# Altium integrated library Resistor - Current Sense.IntLib: 810 symbols (part 5 of 12)
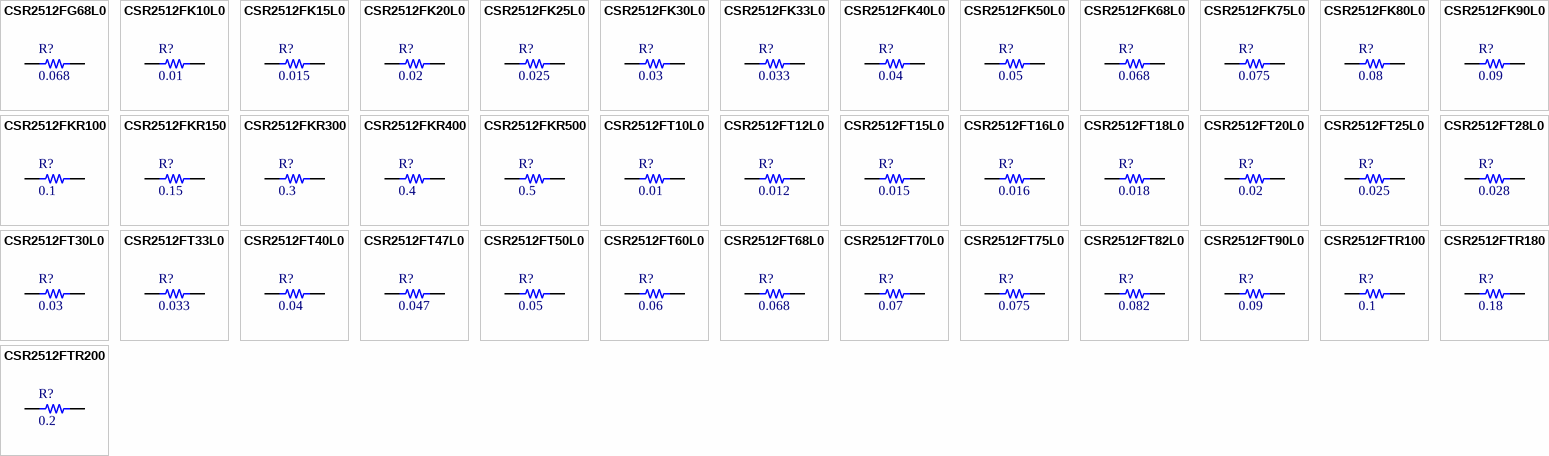
[diagram p24: symbols CSR2512FG68L0 to CSR2512FTR200]

## CSR2512FK33L0
designator R?, comment 0.033
RES SMD 0.033 OHM 1% 2W 2512; Part Number: CSR2512FK33L0; Manufacturer: Stackpole Electronics Inc.; TemperatureRange: -55C ~ 155C; TemperatureCoefficient: 200ppm/C; Value: 0.033; PartId: 10081; Supplier 1: Digi-Key; Supplier Part Number 1: CSR2512FK33L0-ND; ComponentLink1Description: Datasheet; ComponentLink1URL: http://www.seielect.com/catalog/SEI-CSR_CSRN.pdf; ComponentLink2Description: Digi-Key Listing; ComponentLink2URL: https://www.digikey.com/product-detail/en/stackpole-electronics-inc/CSR2512FK33L0/CSR2512FK33L0-ND/1742521; Tolerance: 1%; PowerRating: 2W; Price: 0.1787; Device Package: 2512 (6432 Metric)
footprint STACKPOLE CSR2512
pins: 1, 2

## CSR2512FK40L0
designator R?, comment 0.04
RES SMD 0.04 OHM 1% 2W 2512; Part Number: CSR2512FK40L0; Manufacturer: Stackpole Electronics Inc.; TemperatureRange: -55C ~ 155C; TemperatureCoefficient: 200ppm/C; Value: 0.04; PartId: 10082; Supplier 1: Digi-Key; Supplier Part Number 1: CSR2512FK40L0-ND; ComponentLink1Description: Datasheet; ComponentLink1URL: http://www.seielect.com/catalog/SEI-CSR_CSRN.pdf; ComponentLink2Description: Digi-Key Listing; ComponentLink2URL: https://www.digikey.com/product-detail/en/stackpole-electronics-inc/CSR2512FK40L0/CSR2512FK40L0-ND/1742526; Tolerance: 1%; PowerRating: 2W; Price: 0.1787; Device Package: 2512 (6432 Metric)
footprint STACKPOLE CSR2512
pins: 1, 2

## CSR2512FK50L0
designator R?, comment 0.05
RES SMD 0.05 OHM 1% 2W 2512; Part Number: CSR2512FK50L0; Manufacturer: Stackpole Electronics Inc.; TemperatureRange: -55C ~ 155C; TemperatureCoefficient: 200ppm/C; Value: 0.05; PartId: 10083; Supplier 1: Digi-Key; Supplier Part Number 1: CSR2512FK50L0-ND; ComponentLink1Description: Datasheet; ComponentLink1URL: http://www.seielect.com/catalog/SEI-CSR_CSRN.pdf; ComponentLink2Description: Digi-Key Listing; ComponentLink2URL: https://www.digikey.com/product-detail/en/stackpole-electronics-inc/CSR2512FK50L0/CSR2512FK50L0-ND/1742529; Tolerance: 1%; PowerRating: 2W; Price: 0.1787; Device Package: 2512 (6432 Metric)
footprint STACKPOLE CSR2512
pins: 1, 2

## CSR2512FK68L0
designator R?, comment 0.068
RES SMD 0.068 OHM 1% 2W 2512; Part Number: CSR2512FK68L0; Manufacturer: Stackpole Electronics Inc.; TemperatureRange: -55C ~ 155C; TemperatureCoefficient: 200ppm/C; Value: 0.068; PartId: 10066; Supplier 1: Digi-Key; Supplier Part Number 1: CSR2512FK68L0-ND; ComponentLink1Description: Datasheet; ComponentLink1URL: http://www.seielect.com/catalog/SEI-CSR_CSRN.pdf; ComponentLink2Description: Digi-Key Listing; ComponentLink2URL: https://www.digikey.com/product-detail/en/stackpole-electronics-inc/CSR2512FK68L0/CSR2512FK68L0-ND/1742532; Tolerance: 1%; PowerRating: 2W; Price: 0.1665; Device Package: 2512 (6432 Metric)
footprint STACKPOLE CSR2512
pins: 1, 2

## CSR2512FK75L0
designator R?, comment 0.075
RES SMD 0.075 OHM 1% 2W 2512; Part Number: CSR2512FK75L0; Manufacturer: Stackpole Electronics Inc.; TemperatureRange: -55C ~ 155C; TemperatureCoefficient: 200ppm/C; Value: 0.075; PartId: 10067; Supplier 1: Digi-Key; Supplier Part Number 1: CSR2512FK75L0-ND; ComponentLink1Description: Datasheet; ComponentLink1URL: http://www.seielect.com/catalog/SEI-CSR_CSRN.pdf; ComponentLink2Description: Digi-Key Listing; ComponentLink2URL: https://www.digikey.com/product-detail/en/stackpole-electronics-inc/CSR2512FK75L0/CSR2512FK75L0-ND/1742536; Tolerance: 1%; PowerRating: 2W; Price: 0.1665; Device Package: 2512 (6432 Metric)
footprint STACKPOLE CSR2512
pins: 1, 2

## CSR2512FK80L0
designator R?, comment 0.08
RES SMD 0.08 OHM 1% 2W 2512; Part Number: CSR2512FK80L0; Manufacturer: Stackpole Electronics Inc.; TemperatureRange: -55C ~ 155C; TemperatureCoefficient: 200ppm/C; Value: 0.08; PartId: 10068; Supplier 1: Digi-Key; Supplier Part Number 1: CSR2512FK80L0-ND; ComponentLink1Description: Datasheet; ComponentLink1URL: http://www.seielect.com/catalog/SEI-CSR_CSRN.pdf; ComponentLink2Description: Digi-Key Listing; ComponentLink2URL: https://www.digikey.com/product-detail/en/stackpole-electronics-inc/CSR2512FK80L0/CSR2512FK80L0-ND/1742538; Tolerance: 1%; PowerRating: 2W; Price: 0.1665; Device Package: 2512 (6432 Metric)
footprint STACKPOLE CSR2512
pins: 1, 2

## CSR2512FK90L0
designator R?, comment 0.09
RES SMD 0.09 OHM 1% 2W 2512; Part Number: CSR2512FK90L0; Manufacturer: Stackpole Electronics Inc.; TemperatureRange: -55C ~ 155C; TemperatureCoefficient: 200ppm/C; Value: 0.09; PartId: 10069; Supplier 1: Digi-Key; Supplier Part Number 1: CSR2512FK90L0-ND; ComponentLink1Description: Datasheet; ComponentLink1URL: http://www.seielect.com/catalog/SEI-CSR_CSRN.pdf; ComponentLink2Description: Digi-Key Listing; ComponentLink2URL: https://www.digikey.com/product-detail/en/stackpole-electronics-inc/CSR2512FK90L0/CSR2512FK90L0-ND/1742540; Tolerance: 1%; PowerRating: 2W; Price: 0.1665; Device Package: 2512 (6432 Metric)
footprint STACKPOLE CSR2512
pins: 1, 2

## CSR2512FKR100
designator R?, comment 0.1
RES SMD 0.1 OHM 1% 2W 2512; Part Number: CSR2512FKR100; Manufacturer: Stackpole Electronics Inc.; TemperatureRange: -55C ~ 155C; TemperatureCoefficient: 200ppm/C; Value: 0.1; PartId: 10070; Supplier 1: Digi-Key; Supplier Part Number 1: CSR2512FKR100-ND; ComponentLink1Description: Datasheet; ComponentLink1URL: http://www.seielect.com/catalog/SEI-CSR_CSRN.pdf; ComponentLink2Description: Digi-Key Listing; ComponentLink2URL: https://www.digikey.com/product-detail/en/stackpole-electronics-inc/CSR2512FKR100/CSR2512FKR100-ND/1742542; Tolerance: 1%; PowerRating: 2W; Price: 0.1665; Device Package: 2512 (6432 Metric)
footprint STACKPOLE CSR2512
pins: 1, 2

## CSR2512FKR150
designator R?, comment 0.15
RES SMD 0.15 OHM 1% 2W 2512; Part Number: CSR2512FKR150; Manufacturer: Stackpole Electronics Inc.; TemperatureRange: -55C ~ 155C; TemperatureCoefficient: 200ppm/C; Value: 0.15; PartId: 10056; Supplier 1: Digi-Key; Supplier Part Number 1: CSR2512FKR150-ND; ComponentLink1Description: Datasheet; ComponentLink1URL: http://www.seielect.com/catalog/SEI-CSR_CSRN.pdf; ComponentLink2Description: Digi-Key Listing; ComponentLink2URL: https://www.digikey.com/product-detail/en/stackpole-electronics-inc/CSR2512FKR150/CSR2512FKR150-ND/1742545; Tolerance: 1%; PowerRating: 2W; Price: 0.1388; Device Package: 2512 (6432 Metric)
footprint STACKPOLE CSR2512
pins: 1, 2

## CSR2512FKR300
designator R?, comment 0.3
RES SMD 0.3 OHM 1% 2W 2512; Part Number: CSR2512FKR300; Manufacturer: Stackpole Electronics Inc.; TemperatureRange: -55C ~ 155C; TemperatureCoefficient: 200ppm/C; Value: 0.3; PartId: 10057; Supplier 1: Digi-Key; Supplier Part Number 1: CSR2512FKR300-ND; ComponentLink1Description: Datasheet; ComponentLink1URL: http://www.seielect.com/catalog/SEI-CSR_CSRN.pdf; ComponentLink2Description: Digi-Key Listing; ComponentLink2URL: https://www.digikey.com/product-detail/en/stackpole-electronics-inc/CSR2512FKR300/CSR2512FKR300-ND/1742550; Tolerance: 1%; PowerRating: 2W; Price: 0.1388; Device Package: 2512 (6432 Metric)
footprint STACKPOLE CSR2512
pins: 1, 2

## CSR2512FKR400
designator R?, comment 0.4
RES SMD 0.4 OHM 1% 2W 2512; Part Number: CSR2512FKR400; Manufacturer: Stackpole Electronics Inc.; TemperatureRange: -55C ~ 155C; TemperatureCoefficient: 200ppm/C; Value: 0.4; PartId: 10058; Supplier 1: Digi-Key; Supplier Part Number 1: CSR2512FKR400-ND; ComponentLink1Description: Datasheet; ComponentLink1URL: http://www.seielect.com/catalog/SEI-CSR_CSRN.pdf; ComponentLink2Description: Digi-Key Listing; ComponentLink2URL: https://www.digikey.com/product-detail/en/stackpole-electronics-inc/CSR2512FKR400/CSR2512FKR400-ND/1742551; Tolerance: 1%; PowerRating: 2W; Price: 0.1388; Device Package: 2512 (6432 Metric)
footprint STACKPOLE CSR2512
pins: 1, 2

## CSR2512FKR500
designator R?, comment 0.5
RES SMD 0.5 OHM 1% 2W 2512; Part Number: CSR2512FKR500; Manufacturer: Stackpole Electronics Inc.; TemperatureRange: -55C ~ 155C; TemperatureCoefficient: 200ppm/C; Value: 0.5; PartId: 10044; Supplier 1: Digi-Key; Supplier Part Number 1: CSR2512FKR500-ND; ComponentLink1Description: Datasheet; ComponentLink1URL: http://www.seielect.com/catalog/SEI-CSR_CSRN.pdf; ComponentLink2Description: Digi-Key Listing; ComponentLink2URL: https://www.digikey.com/product-detail/en/stackpole-electronics-inc/CSR2512FKR500/CSR2512FKR500-ND/1742557; Tolerance: 1%; PowerRating: 2W; Price: 0.096; Device Package: 2512 (6432 Metric)
footprint STACKPOLE CSR2512
pins: 1, 2

## CSR2512FT10L0
designator R?, comment 0.01
RES SMD 0.01 OHM 1% 2W 2512; Part Number: CSR2512FT10L0; Manufacturer: Stackpole Electronics Inc.; TemperatureRange: -55C ~ 155C; TemperatureCoefficient: 200ppm/C; Value: 0.01; PartId: 10084; Supplier 1: Digi-Key; Supplier Part Number 1: CSR2512FT10L0-ND; ComponentLink1Description: Datasheet; ComponentLink1URL: http://www.seielect.com/catalog/SEI-CSR_CSRN.pdf; ComponentLink2Description: Digi-Key Listing; ComponentLink2URL: https://www.digikey.com/product-detail/en/stackpole-electronics-inc/CSR2512FT10L0/CSR2512FT10L0-ND/1742504; Tolerance: 1%; PowerRating: 2W; Price: 0.2128; Device Package: 2512 (6432 Metric)
footprint STACKPOLE CSR2512
pins: 1, 2

## CSR2512FT12L0
designator R?, comment 0.012
RES SMD 0.012 OHM 1% 2W 2512; Part Number: CSR2512FT12L0; Manufacturer: Stackpole Electronics Inc.; TemperatureRange: -55C ~ 155C; TemperatureCoefficient: 200ppm/C; Value: 0.012; PartId: 10085; Supplier 1: Digi-Key; Supplier Part Number 1: CSR2512FT12L0-ND; ComponentLink1Description: Datasheet; ComponentLink1URL: http://www.seielect.com/catalog/SEI-CSR_CSRN.pdf; ComponentLink2Description: Digi-Key Listing; ComponentLink2URL: https://www.digikey.com/product-detail/en/stackpole-electronics-inc/CSR2512FT12L0/CSR2512FT12L0-ND/1742505; Tolerance: 1%; PowerRating: 2W; Price: 0.2128; Device Package: 2512 (6432 Metric)
footprint STACKPOLE CSR2512
pins: 1, 2

## CSR2512FT15L0
designator R?, comment 0.015
RES SMD 0.015 OHM 1% 2W 2512; Part Number: CSR2512FT15L0; Manufacturer: Stackpole Electronics Inc.; TemperatureRange: -55C ~ 155C; TemperatureCoefficient: 200ppm/C; Value: 0.015; PartId: 10086; Supplier 1: Digi-Key; Supplier Part Number 1: CSR2512FT15L0-ND; ComponentLink1Description: Datasheet; ComponentLink1URL: http://www.seielect.com/catalog/SEI-CSR_CSRN.pdf; ComponentLink2Description: Digi-Key Listing; ComponentLink2URL: https://www.digikey.com/product-detail/en/stackpole-electronics-inc/CSR2512FT15L0/CSR2512FT15L0-ND/1742507; Tolerance: 1%; PowerRating: 2W; Price: 0.2128; Device Package: 2512 (6432 Metric)
footprint STACKPOLE CSR2512
pins: 1, 2

## CSR2512FT16L0
designator R?, comment 0.016
RES SMD 0.016 OHM 1% 2W 2512; Part Number: CSR2512FT16L0; Manufacturer: Stackpole Electronics Inc.; TemperatureRange: -55C ~ 155C; TemperatureCoefficient: 200ppm/C; Value: 0.016; PartId: 10087; Supplier 1: Digi-Key; Supplier Part Number 1: CSR2512FT16L0-ND; ComponentLink1Description: Datasheet; ComponentLink1URL: http://www.seielect.com/catalog/SEI-CSR_CSRN.pdf; ComponentLink2Description: Digi-Key Listing; ComponentLink2URL: https://www.digikey.com/product-detail/en/stackpole-electronics-inc/CSR2512FT16L0/CSR2512FT16L0-ND/1742509; Tolerance: 1%; PowerRating: 2W; Price: 0.2128; Device Package: 2512 (6432 Metric)
footprint STACKPOLE CSR2512
pins: 1, 2

## CSR2512FT18L0
designator R?, comment 0.018
RES SMD 0.018 OHM 1% 2W 2512; Part Number: CSR2512FT18L0; Manufacturer: Stackpole Electronics Inc.; TemperatureRange: -55C ~ 155C; TemperatureCoefficient: 200ppm/C; Value: 0.018; PartId: 10088; Supplier 1: Digi-Key; Supplier Part Number 1: CSR2512FT18L0-ND; ComponentLink1Description: Datasheet; ComponentLink1URL: http://www.seielect.com/catalog/SEI-CSR_CSRN.pdf; ComponentLink2Description: Digi-Key Listing; ComponentLink2URL: https://www.digikey.com/product-detail/en/stackpole-electronics-inc/CSR2512FT18L0/CSR2512FT18L0-ND/1742510; Tolerance: 1%; PowerRating: 2W; Price: 0.2128; Device Package: 2512 (6432 Metric)
footprint STACKPOLE CSR2512
pins: 1, 2

## CSR2512FT20L0
designator R?, comment 0.02
RES SMD 0.02 OHM 1% 2W 2512; Part Number: CSR2512FT20L0; Manufacturer: Stackpole Electronics Inc.; TemperatureRange: -55C ~ 155C; TemperatureCoefficient: 200ppm/C; Value: 0.02; PartId: 10089; Supplier 1: Digi-Key; Supplier Part Number 1: CSR2512FT20L0-ND; ComponentLink1Description: Datasheet; ComponentLink1URL: http://www.seielect.com/catalog/SEI-CSR_CSRN.pdf; ComponentLink2Description: Digi-Key Listing; ComponentLink2URL: https://www.digikey.com/product-detail/en/stackpole-electronics-inc/CSR2512FT20L0/CSR2512FT20L0-ND/1742515; Tolerance: 1%; PowerRating: 2W; Price: 0.2128; Device Package: 2512 (6432 Metric)
footprint STACKPOLE CSR2512
pins: 1, 2

## CSR2512FT25L0
designator R?, comment 0.025
RES SMD 0.025 OHM 1% 2W 2512; Part Number: CSR2512FT25L0; Manufacturer: Stackpole Electronics Inc.; TemperatureRange: -55C ~ 155C; TemperatureCoefficient: 200ppm/C; Value: 0.025; PartId: 10072; Supplier 1: Digi-Key; Supplier Part Number 1: CSR2512FT25L0-ND; ComponentLink1Description: Datasheet; ComponentLink1URL: http://www.seielect.com/catalog/SEI-CSR_CSRN.pdf; ComponentLink2Description: Digi-Key Listing; ComponentLink2URL: https://www.digikey.com/product-detail/en/stackpole-electronics-inc/CSR2512FT25L0/CSR2512FT25L0-ND/1742517; Tolerance: 1%; PowerRating: 2W; Price: 0.1729; Device Package: 2512 (6432 Metric)
footprint STACKPOLE CSR2512
pins: 1, 2

## CSR2512FT28L0
designator R?, comment 0.028
RES SMD 0.028 OHM 1% 2W 2512; Part Number: CSR2512FT28L0; Manufacturer: Stackpole Electronics Inc.; TemperatureRange: -55C ~ 155C; TemperatureCoefficient: 200ppm/C; Value: 0.028; PartId: 10073; Supplier 1: Digi-Key; Supplier Part Number 1: CSR2512FT28L0-ND; ComponentLink1Description: Datasheet; ComponentLink1URL: http://www.seielect.com/catalog/SEI-CSR_CSRN.pdf; ComponentLink2Description: Digi-Key Listing; ComponentLink2URL: https://www.digikey.com/product-detail/en/stackpole-electronics-inc/CSR2512FT28L0/CSR2512FT28L0-ND/1742518; Tolerance: 1%; PowerRating: 2W; Price: 0.1729; Device Package: 2512 (6432 Metric)
footprint STACKPOLE CSR2512
pins: 1, 2

## CSR2512FT30L0
designator R?, comment 0.03
RES SMD 0.03 OHM 1% 2W 2512; Part Number: CSR2512FT30L0; Manufacturer: Stackpole Electronics Inc.; TemperatureRange: -55C ~ 155C; TemperatureCoefficient: 200ppm/C; Value: 0.03; PartId: 10074; Supplier 1: Digi-Key; Supplier Part Number 1: CSR2512FT30L0-ND; ComponentLink1Description: Datasheet; ComponentLink1URL: http://www.seielect.com/catalog/SEI-CSR_CSRN.pdf; ComponentLink2Description: Digi-Key Listing; ComponentLink2URL: https://www.digikey.com/product-detail/en/stackpole-electronics-inc/CSR2512FT30L0/CSR2512FT30L0-ND/1742520; Tolerance: 1%; PowerRating: 2W; Price: 0.1729; Device Package: 2512 (6432 Metric)
footprint STACKPOLE CSR2512
pins: 1, 2

## CSR2512FT33L0
designator R?, comment 0.033
RES SMD 0.033 OHM 1% 2W 2512; Part Number: CSR2512FT33L0; Manufacturer: Stackpole Electronics Inc.; TemperatureRange: -55C ~ 155C; TemperatureCoefficient: 200ppm/C; Value: 0.033; PartId: 10075; Supplier 1: Digi-Key; Supplier Part Number 1: CSR2512FT33L0-ND; ComponentLink1Description: Datasheet; ComponentLink1URL: http://www.seielect.com/catalog/SEI-CSR_CSRN.pdf; ComponentLink2Description: Digi-Key Listing; ComponentLink2URL: https://www.digikey.com/product-detail/en/stackpole-electronics-inc/CSR2512FT33L0/CSR2512FT33L0-ND/1742522; Tolerance: 1%; PowerRating: 2W; Price: 0.1729; Device Package: 2512 (6432 Metric)
footprint STACKPOLE CSR2512
pins: 1, 2

## CSR2512FT40L0
designator R?, comment 0.04
RES SMD 0.04 OHM 1% 2W 2512; Part Number: CSR2512FT40L0; Manufacturer: Stackpole Electronics Inc.; TemperatureRange: -55C ~ 155C; TemperatureCoefficient: 200ppm/C; Value: 0.04; PartId: 10076; Supplier 1: Digi-Key; Supplier Part Number 1: CSR2512FT40L0-ND; ComponentLink1Description: Datasheet; ComponentLink1URL: http://www.seielect.com/catalog/SEI-CSR_CSRN.pdf; ComponentLink2Description: Digi-Key Listing; ComponentLink2URL: https://www.digikey.com/product-detail/en/stackpole-electronics-inc/CSR2512FT40L0/CSR2512FT40L0-ND/1742527; Tolerance: 1%; PowerRating: 2W; Price: 0.1729; Device Package: 2512 (6432 Metric)
footprint STACKPOLE CSR2512
pins: 1, 2

## CSR2512FT47L0
designator R?, comment 0.047
RES SMD 0.047 OHM 1% 2W 2512; Part Number: CSR2512FT47L0; Manufacturer: Stackpole Electronics Inc.; TemperatureRange: -55C ~ 155C; TemperatureCoefficient: 200ppm/C; Value: 0.047; PartId: 10077; Supplier 1: Digi-Key; Supplier Part Number 1: CSR2512FT47L0-ND; ComponentLink1Description: Datasheet; ComponentLink1URL: http://www.seielect.com/catalog/SEI-CSR_CSRN.pdf; ComponentLink2Description: Digi-Key Listing; ComponentLink2URL: https://www.digikey.com/product-detail/en/stackpole-electronics-inc/CSR2512FT47L0/CSR2512FT47L0-ND/1742528; Tolerance: 1%; PowerRating: 2W; Price: 0.1729; Device Package: 2512 (6432 Metric)
footprint STACKPOLE CSR2512
pins: 1, 2

## CSR2512FT50L0
designator R?, comment 0.05
RES SMD 0.05 OHM 1% 2W 2512; Part Number: CSR2512FT50L0; Manufacturer: Stackpole Electronics Inc.; TemperatureRange: -55C ~ 155C; TemperatureCoefficient: 200ppm/C; Value: 0.05; PartId: 10078; Supplier 1: Digi-Key; Supplier Part Number 1: CSR2512FT50L0-ND; ComponentLink1Description: Datasheet; ComponentLink1URL: http://www.seielect.com/catalog/SEI-CSR_CSRN.pdf; ComponentLink2Description: Digi-Key Listing; ComponentLink2URL: https://www.digikey.com/product-detail/en/stackpole-electronics-inc/CSR2512FT50L0/CSR2512FT50L0-ND/1742530; Tolerance: 1%; PowerRating: 2W; Price: 0.1729; Device Package: 2512 (6432 Metric)
footprint STACKPOLE CSR2512
pins: 1, 2

## CSR2512FT60L0
designator R?, comment 0.06
RES SMD 0.06 OHM 1% 2W 2512; Part Number: CSR2512FT60L0; Manufacturer: Stackpole Electronics Inc.; TemperatureRange: -55C ~ 155C; TemperatureCoefficient: 200ppm/C; Value: 0.06; PartId: 10059; Supplier 1: Digi-Key; Supplier Part Number 1: CSR2512FT60L0-ND; ComponentLink1Description: Datasheet; ComponentLink1URL: http://www.seielect.com/catalog/SEI-CSR_CSRN.pdf; ComponentLink2Description: Digi-Key Listing; ComponentLink2URL: https://www.digikey.com/product-detail/en/stackpole-electronics-inc/CSR2512FT60L0/CSR2512FT60L0-ND/1742531; Tolerance: 1%; PowerRating: 2W; Price: 0.1608; Device Package: 2512 (6432 Metric)
footprint STACKPOLE CSR2512
pins: 1, 2

## CSR2512FT68L0
designator R?, comment 0.068
RES SMD 0.068 OHM 1% 2W 2512; Part Number: CSR2512FT68L0; Manufacturer: Stackpole Electronics Inc.; TemperatureRange: -55C ~ 155C; TemperatureCoefficient: 200ppm/C; Value: 0.068; PartId: 10060; Supplier 1: Digi-Key; Supplier Part Number 1: CSR2512FT68L0-ND; ComponentLink1Description: Datasheet; ComponentLink1URL: http://www.seielect.com/catalog/SEI-CSR_CSRN.pdf; ComponentLink2Description: Digi-Key Listing; ComponentLink2URL: https://www.digikey.com/product-detail/en/stackpole-electronics-inc/CSR2512FT68L0/CSR2512FT68L0-ND/1742533; Tolerance: 1%; PowerRating: 2W; Price: 0.1608; Device Package: 2512 (6432 Metric)
footprint STACKPOLE CSR2512
pins: 1, 2

## CSR2512FT70L0
designator R?, comment 0.07
RES SMD 0.07 OHM 1% 2W 2512; Part Number: CSR2512FT70L0; Manufacturer: Stackpole Electronics Inc.; TemperatureRange: -55C ~ 155C; TemperatureCoefficient: 200ppm/C; Value: 0.07; PartId: 10061; Supplier 1: Digi-Key; Supplier Part Number 1: CSR2512FT70L0-ND; ComponentLink1Description: Datasheet; ComponentLink1URL: http://www.seielect.com/catalog/SEI-CSR_CSRN.pdf; ComponentLink2Description: Digi-Key Listing; ComponentLink2URL: https://www.digikey.com/product-detail/en/stackpole-electronics-inc/CSR2512FT70L0/CSR2512FT70L0-ND/1742535; Tolerance: 1%; PowerRating: 2W; Price: 0.1608; Device Package: 2512 (6432 Metric)
footprint STACKPOLE CSR2512
pins: 1, 2

## CSR2512FT75L0
designator R?, comment 0.075
RES SMD 0.075 OHM 1% 2W 2512; Part Number: CSR2512FT75L0; Manufacturer: Stackpole Electronics Inc.; TemperatureRange: -55C ~ 155C; TemperatureCoefficient: 200ppm/C; Value: 0.075; PartId: 10062; Supplier 1: Digi-Key; Supplier Part Number 1: CSR2512FT75L0-ND; ComponentLink1Description: Datasheet; ComponentLink1URL: http://www.seielect.com/catalog/SEI-CSR_CSRN.pdf; ComponentLink2Description: Digi-Key Listing; ComponentLink2URL: https://www.digikey.com/product-detail/en/stackpole-electronics-inc/CSR2512FT75L0/CSR2512FT75L0-ND/1742537; Tolerance: 1%; PowerRating: 2W; Price: 0.1608; Device Package: 2512 (6432 Metric)
footprint STACKPOLE CSR2512
pins: 1, 2

## CSR2512FT82L0
designator R?, comment 0.082
RES SMD 0.082 OHM 1% 2W 2512; Part Number: CSR2512FT82L0; Manufacturer: Stackpole Electronics Inc.; TemperatureRange: -55C ~ 155C; TemperatureCoefficient: 200ppm/C; Value: 0.082; PartId: 10063; Supplier 1: Digi-Key; Supplier Part Number 1: CSR2512FT82L0-ND; ComponentLink1Description: Datasheet; ComponentLink1URL: http://www.seielect.com/catalog/SEI-CSR_CSRN.pdf; ComponentLink2Description: Digi-Key Listing; ComponentLink2URL: https://www.digikey.com/product-detail/en/stackpole-electronics-inc/CSR2512FT82L0/CSR2512FT82L0-ND/1742539; Tolerance: 1%; PowerRating: 2W; Price: 0.1608; Device Package: 2512 (6432 Metric)
footprint STACKPOLE CSR2512
pins: 1, 2

## CSR2512FT90L0
designator R?, comment 0.09
RES SMD 0.09 OHM 1% 2W 2512; Part Number: CSR2512FT90L0; Manufacturer: Stackpole Electronics Inc.; TemperatureRange: -55C ~ 155C; TemperatureCoefficient: 200ppm/C; Value: 0.09; PartId: 10064; Supplier 1: Digi-Key; Supplier Part Number 1: CSR2512FT90L0-ND; ComponentLink1Description: Datasheet; ComponentLink1URL: http://www.seielect.com/catalog/SEI-CSR_CSRN.pdf; ComponentLink2Description: Digi-Key Listing; ComponentLink2URL: https://www.digikey.com/product-detail/en/stackpole-electronics-inc/CSR2512FT90L0/CSR2512FT90L0-ND/1742541; Tolerance: 1%; PowerRating: 2W; Price: 0.1608; Device Package: 2512 (6432 Metric)
footprint STACKPOLE CSR2512
pins: 1, 2

## CSR2512FTR100
designator R?, comment 0.1
RES SMD 0.1 OHM 1% 2W 2512; Part Number: CSR2512FTR100; Manufacturer: Stackpole Electronics Inc.; TemperatureRange: -55C ~ 155C; TemperatureCoefficient: 200ppm/C; Value: 0.1; PartId: 10065; Supplier 1: Digi-Key; Supplier Part Number 1: CSR2512FTR100-ND; ComponentLink1Description: Datasheet; ComponentLink1URL: http://www.seielect.com/catalog/SEI-CSR_CSRN.pdf; ComponentLink2Description: Digi-Key Listing; ComponentLink2URL: https://www.digikey.com/product-detail/en/stackpole-electronics-inc/CSR2512FTR100/CSR2512FTR100-ND/1742543; Tolerance: 1%; PowerRating: 2W; Price: 0.1608; Device Package: 2512 (6432 Metric)
footprint STACKPOLE CSR2512
pins: 1, 2

## CSR2512FTR180
designator R?, comment 0.18
RES SMD 0.18 OHM 1% 2W 2512; Part Number: CSR2512FTR180; Manufacturer: Stackpole Electronics Inc.; TemperatureRange: -55C ~ 155C; TemperatureCoefficient: 200ppm/C; Value: 0.18; PartId: 10053; Supplier 1: Digi-Key; Supplier Part Number 1: CSR2512FTR180-ND; ComponentLink1Description: Datasheet; ComponentLink1URL: http://www.seielect.com/catalog/SEI-CSR_CSRN.pdf; ComponentLink2Description: Digi-Key Listing; ComponentLink2URL: https://www.digikey.com/product-detail/en/stackpole-electronics-inc/CSR2512FTR180/CSR2512FTR180-ND/1742546; Tolerance: 1%; PowerRating: 2W; Price: 0.134; Device Package: 2512 (6432 Metric)
footprint STACKPOLE CSR2512
pins: 1, 2

## CSR2512FTR200
designator R?, comment 0.2
RES SMD 0.2 OHM 1% 2W 2512; Part Number: CSR2512FTR200; Manufacturer: Stackpole Electronics Inc.; TemperatureRange: -55C ~ 155C; TemperatureCoefficient: 200ppm/C; Value: 0.2; PartId: 10054; Supplier 1: Digi-Key; Supplier Part Number 1: CSR2512FTR200-ND; ComponentLink1Description: Datasheet; ComponentLink1URL: http://www.seielect.com/catalog/SEI-CSR_CSRN.pdf; ComponentLink2Description: Digi-Key Listing; ComponentLink2URL: https://www.digikey.com/product-detail/en/stackpole-electronics-inc/CSR2512FTR200/CSR2512FTR200-ND/1742547; Tolerance: 1%; PowerRating: 2W; Price: 0.134; Device Package: 2512 (6432 Metric)
footprint STACKPOLE CSR2512
pins: 1, 2

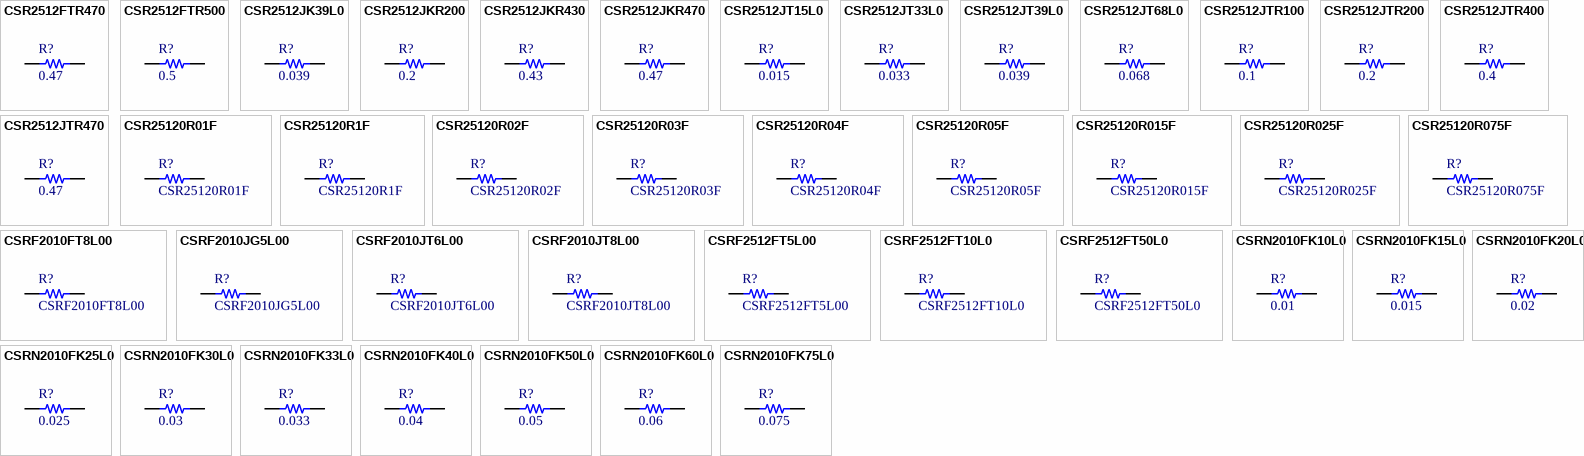
[diagram p8: symbols CSR2512FTR470 to CSRN2010FK75L0]

## CSR2512FTR470
designator R?, comment 0.47
RES SMD 0.47 OHM 1% 2W 2512; Part Number: CSR2512FTR470; Manufacturer: Stackpole Electronics Inc.; TemperatureRange: -55C ~ 155C; TemperatureCoefficient: 200ppm/C; Value: 0.47; PartId: 10055; Supplier 1: Digi-Key; Supplier Part Number 1: CSR2512FTR470-ND; ComponentLink1Description: Datasheet; ComponentLink1URL: http://www.seielect.com/catalog/SEI-CSR_CSRN.pdf; ComponentLink2Description: Digi-Key Listing; ComponentLink2URL: https://www.digikey.com/product-detail/en/stackpole-electronics-inc/CSR2512FTR470/CSR2512FTR470-ND/1742554; Tolerance: 1%; PowerRating: 2W; Price: 0.134; Device Package: 2512 (6432 Metric)
footprint STACKPOLE CSR2512
pins: 1, 2

## CSR2512FTR500
designator R?, comment 0.5
RES SMD 0.5 OHM 1% 2W 2512; Part Number: CSR2512FTR500; Manufacturer: Stackpole Electronics Inc.; TemperatureRange: -55C ~ 155C; TemperatureCoefficient: 200ppm/C; Value: 0.5; PartId: 10039; Supplier 1: Digi-Key; Supplier Part Number 1: CSR2512FTR500TR-ND; ComponentLink1Description: Datasheet; ComponentLink1URL: http://www.seielect.com/catalog/SEI-CSR_CSRN.pdf; ComponentLink2Description: Digi-Key Listing; ComponentLink2URL: https://www.digikey.com/product-detail/en/stackpole-electronics-inc/CSR2512FTR500/CSR2512FTR500TR-ND/1742558; Tolerance: 1%; PowerRating: 2W; Price: 0.09; Device Package: 2512 (6432 Metric)
footprint STACKPOLE CSR2512
pins: 1, 2

## CSR2512JK39L0
designator R?, comment 0.039
RES SMD 0.039 OHM 5% 2W 2512; Part Number: CSR2512JK39L0; Manufacturer: Stackpole Electronics Inc.; TemperatureRange: -55C ~ 155C; TemperatureCoefficient: 200ppm/C; Value: 0.039; PartId: 10051; Supplier 1: Digi-Key; Supplier Part Number 1: CSR2512JK39L0-ND; ComponentLink1Description: Datasheet; ComponentLink1URL: http://www.seielect.com/catalog/SEI-CSR_CSRN.pdf; ComponentLink2Description: Digi-Key Listing; ComponentLink2URL: https://www.digikey.com/product-detail/en/stackpole-electronics-inc/CSR2512JK39L0/CSR2512JK39L0-ND/1742524; Tolerance: 5%; PowerRating: 2W; Price: 0.126; Device Package: 2512 (6432 Metric)
footprint STACKPOLE CSR2512
pins: 1, 2

## CSR2512JKR200
designator R?, comment 0.2
RES SMD 0.2 OHM 5% 2W 2512; Part Number: CSR2512JKR200; Manufacturer: Stackpole Electronics Inc.; TemperatureRange: -55C ~ 155C; TemperatureCoefficient: 200ppm/C; Value: 0.2; PartId: 10045; Supplier 1: Digi-Key; Supplier Part Number 1: CSR2512JKR200-ND; ComponentLink1Description: Datasheet; ComponentLink1URL: http://www.seielect.com/catalog/SEI-CSR_CSRN.pdf; ComponentLink2Description: Digi-Key Listing; ComponentLink2URL: https://www.digikey.com/product-detail/en/stackpole-electronics-inc/CSR2512JKR200/CSR2512JKR200-ND/1742548; Tolerance: 5%; PowerRating: 2W; Price: 0.098; Device Package: 2512 (6432 Metric)
footprint STACKPOLE CSR2512
pins: 1, 2

## CSR2512JKR430
designator R?, comment 0.43
RES SMD 0.43 OHM 5% 2W 2512; Part Number: CSR2512JKR430; Manufacturer: Stackpole Electronics Inc.; TemperatureRange: -55C ~ 155C; TemperatureCoefficient: 200ppm/C; Value: 0.43; PartId: 10046; Supplier 1: Digi-Key; Supplier Part Number 1: CSR2512JKR430-ND; ComponentLink1Description: Datasheet; ComponentLink1URL: http://www.seielect.com/catalog/SEI-CSR_CSRN.pdf; ComponentLink2Description: Digi-Key Listing; ComponentLink2URL: https://www.digikey.com/product-detail/en/stackpole-electronics-inc/CSR2512JKR430/CSR2512JKR430-ND/1742553; Tolerance: 5%; PowerRating: 2W; Price: 0.098; Device Package: 2512 (6432 Metric)
footprint STACKPOLE CSR2512
pins: 1, 2

## CSR2512JKR470
designator R?, comment 0.47
RES SMD 0.47 OHM 5% 2W 2512; Part Number: CSR2512JKR470; Manufacturer: Stackpole Electronics Inc.; TemperatureRange: -55C ~ 155C; TemperatureCoefficient: 200ppm/C; Value: 0.47; PartId: 10047; Supplier 1: Digi-Key; Supplier Part Number 1: CSR2512JKR470-ND; ComponentLink1Description: Datasheet; ComponentLink1URL: http://www.seielect.com/catalog/SEI-CSR_CSRN.pdf; ComponentLink2Description: Digi-Key Listing; ComponentLink2URL: https://www.digikey.com/product-detail/en/stackpole-electronics-inc/CSR2512JKR470/CSR2512JKR470-ND/1742555; Tolerance: 5%; PowerRating: 2W; Price: 0.098; Device Package: 2512 (6432 Metric)
footprint STACKPOLE CSR2512
pins: 1, 2

## CSR2512JT15L0
designator R?, comment 0.015
RES SMD 0.015 OHM 5% 2W 2512; Part Number: CSR2512JT15L0; Manufacturer: Stackpole Electronics Inc.; TemperatureRange: -55C ~ 155C; TemperatureCoefficient: 200ppm/C; Value: 0.015; PartId: 10052; Supplier 1: Digi-Key; Supplier Part Number 1: CSR2512JT15L0-ND; ComponentLink1Description: Datasheet; ComponentLink1URL: http://www.seielect.com/catalog/SEI-CSR_CSRN.pdf; ComponentLink2Description: Digi-Key Listing; ComponentLink2URL: https://www.digikey.com/product-detail/en/stackpole-electronics-inc/CSR2512JT15L0/CSR2512JT15L0-ND/1742508; Tolerance: 5%; PowerRating: 2W; Price: 0.134; Device Package: 2512 (6432 Metric)
footprint STACKPOLE CSR2512
pins: 1, 2

## CSR2512JT33L0
designator R?, comment 0.033
RES SMD 0.033 OHM 5% 2W 2512; Part Number: CSR2512JT33L0; Manufacturer: Stackpole Electronics Inc.; TemperatureRange: -55C ~ 155C; TemperatureCoefficient: 200ppm/C; Value: 0.033; PartId: 10049; Supplier 1: Digi-Key; Supplier Part Number 1: CSR2512JT33L0-ND; ComponentLink1Description: Datasheet; ComponentLink1URL: http://www.seielect.com/catalog/SEI-CSR_CSRN.pdf; ComponentLink2Description: Digi-Key Listing; ComponentLink2URL: https://www.digikey.com/product-detail/en/stackpole-electronics-inc/CSR2512JT33L0/CSR2512JT33L0-ND/1742523; Tolerance: 5%; PowerRating: 2W; Price: 0.1215; Device Package: 2512 (6432 Metric)
footprint STACKPOLE CSR2512
pins: 1, 2

## CSR2512JT39L0
designator R?, comment 0.039
RES SMD 0.039 OHM 5% 2W 2512; Part Number: CSR2512JT39L0; Manufacturer: Stackpole Electronics Inc.; TemperatureRange: -55C ~ 155C; TemperatureCoefficient: 200ppm/C; Value: 0.039; PartId: 10050; Supplier 1: Digi-Key; Supplier Part Number 1: CSR2512JT39L0-ND; ComponentLink1Description: Datasheet; ComponentLink1URL: http://www.seielect.com/catalog/SEI-CSR_CSRN.pdf; ComponentLink2Description: Digi-Key Listing; ComponentLink2URL: https://www.digikey.com/product-detail/en/stackpole-electronics-inc/CSR2512JT39L0/CSR2512JT39L0-ND/1742525; Tolerance: 5%; PowerRating: 2W; Price: 0.1215; Device Package: 2512 (6432 Metric)
footprint STACKPOLE CSR2512
pins: 1, 2

## CSR2512JT68L0
designator R?, comment 0.068
RES SMD 0.068 OHM 5% 2W 2512; Part Number: CSR2512JT68L0; Manufacturer: Stackpole Electronics Inc.; TemperatureRange: -55C ~ 155C; TemperatureCoefficient: 200ppm/C; Value: 0.068; PartId: 10048; Supplier 1: Digi-Key; Supplier Part Number 1: CSR2512JT68L0-ND; ComponentLink1Description: Datasheet; ComponentLink1URL: http://www.seielect.com/catalog/SEI-CSR_CSRN.pdf; ComponentLink2Description: Digi-Key Listing; ComponentLink2URL: https://www.digikey.com/product-detail/en/stackpole-electronics-inc/CSR2512JT68L0/CSR2512JT68L0-ND/1742534; Tolerance: 5%; PowerRating: 2W; Price: 0.108; Device Package: 2512 (6432 Metric)
footprint STACKPOLE CSR2512
pins: 1, 2

## CSR2512JTR100
designator R?, comment 0.1
RES SMD 0.1 OHM 5% 2W 2512; Part Number: CSR2512JTR100; Manufacturer: Stackpole Electronics Inc.; TemperatureRange: -55C ~ 155C; TemperatureCoefficient: 200ppm/C; Value: 0.1; PartId: 10040; Supplier 1: Digi-Key; Supplier Part Number 1: CSR2512JTR100TR-ND; ComponentLink1Description: Datasheet; ComponentLink1URL: http://www.seielect.com/catalog/SEI-CSR_CSRN.pdf; ComponentLink2Description: Digi-Key Listing; ComponentLink2URL: https://www.digikey.com/product-detail/en/stackpole-electronics-inc/CSR2512JTR100/CSR2512JTR100TR-ND/1742544; Tolerance: 5%; PowerRating: 2W; Price: 0.108; Device Package: 2512 (6432 Metric)
footprint STACKPOLE CSR2512
pins: 1, 2

## CSR2512JTR200
designator R?, comment 0.2
RES SMD 0.2 OHM 5% 2W 2512; Part Number: CSR2512JTR200; Manufacturer: Stackpole Electronics Inc.; TemperatureRange: -55C ~ 155C; TemperatureCoefficient: 200ppm/C; Value: 0.2; PartId: 10041; Supplier 1: Digi-Key; Supplier Part Number 1: CSR2512JTR200-ND; ComponentLink1Description: Datasheet; ComponentLink1URL: http://www.seielect.com/catalog/SEI-CSR_CSRN.pdf; ComponentLink2Description: Digi-Key Listing; ComponentLink2URL: https://www.digikey.com/product-detail/en/stackpole-electronics-inc/CSR2512JTR200/CSR2512JTR200-ND/1742549; Tolerance: 5%; PowerRating: 2W; Price: 0.0945; Device Package: 2512 (6432 Metric)
footprint STACKPOLE CSR2512
pins: 1, 2

## CSR2512JTR400
designator R?, comment 0.4
RES SMD 0.4 OHM 5% 2W 2512; Part Number: CSR2512JTR400; Manufacturer: Stackpole Electronics Inc.; TemperatureRange: -55C ~ 155C; TemperatureCoefficient: 200ppm/C; Value: 0.4; PartId: 10042; Supplier 1: Digi-Key; Supplier Part Number 1: CSR2512JTR400-ND; ComponentLink1Description: Datasheet; ComponentLink1URL: http://www.seielect.com/catalog/SEI-CSR_CSRN.pdf; ComponentLink2Description: Digi-Key Listing; ComponentLink2URL: https://www.digikey.com/product-detail/en/stackpole-electronics-inc/CSR2512JTR400/CSR2512JTR400-ND/1742552; Tolerance: 5%; PowerRating: 2W; Price: 0.0945; Device Package: 2512 (6432 Metric)
footprint STACKPOLE CSR2512
pins: 1, 2

## CSR2512JTR470
designator R?, comment 0.47
RES SMD 0.47 OHM 5% 2W 2512; Part Number: CSR2512JTR470; Manufacturer: Stackpole Electronics Inc.; TemperatureRange: -55C ~ 155C; TemperatureCoefficient: 200ppm/C; Value: 0.47; PartId: 10043; Supplier 1: Digi-Key; Supplier Part Number 1: CSR2512JTR470-ND; ComponentLink1Description: Datasheet; ComponentLink1URL: http://www.seielect.com/catalog/SEI-CSR_CSRN.pdf; ComponentLink2Description: Digi-Key Listing; ComponentLink2URL: https://www.digikey.com/product-detail/en/stackpole-electronics-inc/CSR2512JTR470/CSR2512JTR470-ND/1742556; Tolerance: 5%; PowerRating: 2W; Price: 0.0945; Device Package: 2512 (6432 Metric)
footprint STACKPOLE CSR2512
pins: 1, 2

## CSR25120R01F
designator R?
RES SMD 0.01 OHM 1% 1W 2512; Manufacturer: Riedon; Value: 0.01; TemperatureRange: -55C ~ 170C; TemperatureCoefficient: 75ppm/C; Part Number: CSR25120R01F; PartId: 21369; Supplier 1: Digi-Key; Supplier Part Number 1: 696-1655-2-ND; ComponentLink1Description: Datasheet; ComponentLink1URL: http://riedon.com/media/pdf/CSR.pdf; ComponentLink2Description: Digi-Key Listing; ComponentLink2URL: https://www.digikey.com/product-detail/en/riedon/CSR25120R01F/696-1655-2-ND/5723617; Tolerance: 1%; PowerRating: 1W; Price: 0.1729; Device Package: 2512 (6432 Metric)
footprint STACKPOLE CSR2512
pins: 1, 2

## CSR25120R1F
designator R?
RES SMD 0.1 OHM 1% 1W 2512; Manufacturer: Riedon; Value: 0.1; TemperatureRange: -55C ~ 170C; TemperatureCoefficient: 50ppm/C; Part Number: CSR25120R1F; PartId: 21376; Supplier 1: Digi-Key; Supplier Part Number 1: 696-1663-2-ND; ComponentLink1Description: Datasheet; ComponentLink1URL: http://riedon.com/media/pdf/CSR.pdf; ComponentLink2Description: Digi-Key Listing; ComponentLink2URL: https://www.digikey.com/product-detail/en/riedon/CSR25120R1F/696-1663-2-ND/5723625; Tolerance: 1%; PowerRating: 1W; Price: 0.1729; Device Package: 2512 (6432 Metric)
footprint STACKPOLE CSR2512
pins: 1, 2

## CSR25120R02F
designator R?
RES SMD 0.02 OHM 1% 1W 2512; Manufacturer: Riedon; Value: 0.02; TemperatureRange: -55C ~ 170C; TemperatureCoefficient: 50ppm/C; Part Number: CSR25120R02F; PartId: 21385; Supplier 1: Digi-Key; Supplier Part Number 1: 696-1657-2-ND; ComponentLink1Description: Datasheet; ComponentLink1URL: http://riedon.com/media/pdf/CSR.pdf; ComponentLink2Description: Digi-Key Listing; ComponentLink2URL: https://www.digikey.com/product-detail/en/riedon/CSR25120R02F/696-1657-2-ND/5723619; Tolerance: 1%; PowerRating: 1W; Price: 0.1729; Device Package: 2512 (6432 Metric)
footprint STACKPOLE CSR2512
pins: 1, 2

## CSR25120R03F
designator R?
RES SMD 0.03 OHM 1% 1W 2512; Manufacturer: Riedon; Value: 0.03; TemperatureRange: -55C ~ 170C; TemperatureCoefficient: 50ppm/C; Part Number: CSR25120R03F; PartId: 21372; Supplier 1: Digi-Key; Supplier Part Number 1: 696-1659-2-ND; ComponentLink1Description: Datasheet; ComponentLink1URL: http://riedon.com/media/pdf/CSR.pdf; ComponentLink2Description: Digi-Key Listing; ComponentLink2URL: https://www.digikey.com/product-detail/en/riedon/CSR25120R03F/696-1659-2-ND/5723621; Tolerance: 1%; PowerRating: 1W; Price: 0.1729; Device Package: 2512 (6432 Metric)
footprint STACKPOLE CSR2512
pins: 1, 2

## CSR25120R04F
designator R?
RES SMD 0.04 OHM 1% 1W 2512; Manufacturer: Riedon; Value: 0.04; TemperatureRange: -55C ~ 170C; TemperatureCoefficient: 50ppm/C; Part Number: CSR25120R04F; PartId: 21373; Supplier 1: Digi-Key; Supplier Part Number 1: 696-1660-2-ND; ComponentLink1Description: Datasheet; ComponentLink1URL: http://riedon.com/media/pdf/CSR.pdf; ComponentLink2Description: Digi-Key Listing; ComponentLink2URL: https://www.digikey.com/product-detail/en/riedon/CSR25120R04F/696-1660-2-ND/5723622; Tolerance: 1%; PowerRating: 1W; Price: 0.1729; Device Package: 2512 (6432 Metric)
footprint STACKPOLE CSR2512
pins: 1, 2

## CSR25120R05F
designator R?
RES SMD 0.05 OHM 1% 1W 2512; Manufacturer: Riedon; Value: 0.05; TemperatureRange: -55C ~ 170C; TemperatureCoefficient: 50ppm/C; Part Number: CSR25120R05F; PartId: 21374; Supplier 1: Digi-Key; Supplier Part Number 1: 696-1661-2-ND; ComponentLink1Description: Datasheet; ComponentLink1URL: http://riedon.com/media/pdf/CSR.pdf; ComponentLink2Description: Digi-Key Listing; ComponentLink2URL: https://www.digikey.com/product-detail/en/riedon/CSR25120R05F/696-1661-2-ND/5723623; Tolerance: 1%; PowerRating: 1W; Price: 0.1729; Device Package: 2512 (6432 Metric)
footprint STACKPOLE CSR2512
pins: 1, 2

## CSR25120R015F
designator R?
RES SMD 0.015 OHM 1% 1W 2512; Manufacturer: Riedon; Value: 0.015; TemperatureRange: -55C ~ 170C; TemperatureCoefficient: 50ppm/C; Part Number: CSR25120R015F; PartId: 21370; Supplier 1: Digi-Key; Supplier Part Number 1: 696-1656-2-ND; ComponentLink1Description: Datasheet; ComponentLink1URL: http://riedon.com/media/pdf/CSR.pdf; ComponentLink2Description: Digi-Key Listing; ComponentLink2URL: https://www.digikey.com/product-detail/en/riedon/CSR25120R015F/696-1656-2-ND/5723618; Tolerance: 1%; PowerRating: 1W; Price: 0.1729; Device Package: 2512 (6432 Metric)
footprint STACKPOLE CSR2512
pins: 1, 2

## CSR25120R025F
designator R?
RES SMD 0.025 OHM 1% 1W 2512; Manufacturer: Riedon; Value: 0.025; TemperatureRange: -55C ~ 170C; TemperatureCoefficient: 50ppm/C; Part Number: CSR25120R025F; PartId: 21371; Supplier 1: Digi-Key; Supplier Part Number 1: 696-1658-2-ND; ComponentLink1Description: Datasheet; ComponentLink1URL: http://riedon.com/media/pdf/CSR.pdf; ComponentLink2Description: Digi-Key Listing; ComponentLink2URL: https://www.digikey.com/product-detail/en/riedon/CSR25120R025F/696-1658-2-ND/5723620; Tolerance: 1%; PowerRating: 1W; Price: 0.1729; Device Package: 2512 (6432 Metric)
footprint STACKPOLE CSR2512
pins: 1, 2

## CSR25120R075F
designator R?
RES SMD 0.075 OHM 1% 1W 2512; Manufacturer: Riedon; Value: 0.075; TemperatureRange: -55C ~ 170C; TemperatureCoefficient: 50ppm/C; Part Number: CSR25120R075F; PartId: 21375; Supplier 1: Digi-Key; Supplier Part Number 1: 696-1662-2-ND; ComponentLink1Description: Datasheet; ComponentLink1URL: http://riedon.com/media/pdf/CSR.pdf; ComponentLink2Description: Digi-Key Listing; ComponentLink2URL: https://www.digikey.com/product-detail/en/riedon/CSR25120R075F/696-1662-2-ND/5723624; Tolerance: 1%; PowerRating: 1W; Price: 0.1729; Device Package: 2512 (6432 Metric)
footprint STACKPOLE CSR2512
pins: 1, 2

## CSRF2010FT8L00
designator R?
RES SMD 0.008 OHM 1% 1W 2010; Manufacturer: Stackpole Electronics Inc.; Value: 0.008; TemperatureRange: -55C ~ 125C; TemperatureCoefficient: 100ppm/C; Part Number: CSRF2010FT8L00; PartId: 21567; Supplier 1: Digi-Key; Supplier Part Number 1: CSRF2010FT8L00TR-ND; ComponentLink1Description: Datasheet; ComponentLink1URL: https://www.seielect.com/Catalog/SEI-csrf.pdf; ComponentLink2Description: Digi-Key Listing; ComponentLink2URL: https://www.digikey.com/product-detail/en/stackpole-electronics-inc/CSRF2010FT8L00/CSRF2010FT8L00TR-ND/1742610; Tolerance: 1%; PowerRating: 1W; Price: 0.2394; Device Package: 2010 (5025 Metric)
footprint STACKPOLE CSR2010
pins: 1, 2

## CSRF2010JG5L00
designator R?
RES SMD 0.005 OHM 5% 1W 2010; Manufacturer: Stackpole Electronics Inc.; Value: 0.005; TemperatureRange: -55C ~ 125C; TemperatureCoefficient: 100ppm/C; Part Number: CSRF2010JG5L00; PartId: 21564; Supplier 1: Digi-Key; Supplier Part Number 1: CSRF2010JG5L00TR-ND; ComponentLink1Description: Datasheet; ComponentLink1URL: https://www.seielect.com/Catalog/SEI-csrf.pdf; ComponentLink2Description: Digi-Key Listing; ComponentLink2URL: https://www.digikey.com/product-detail/en/stackpole-electronics-inc/CSRF2010JG5L00/CSRF2010JG5L00TR-ND/2027028; Tolerance: 5%; PowerRating: 1W; Price: 0.208; Device Package: 2010 (5025 Metric)
footprint STACKPOLE CSR2010
pins: 1, 2

## CSRF2010JT6L00
designator R?
RES SMD 0.006 OHM 5% 1W 2010; Manufacturer: Stackpole Electronics Inc.; Value: 0.006; TemperatureRange: -55C ~ 125C; TemperatureCoefficient: 100ppm/C; Part Number: CSRF2010JT6L00; PartId: 21566; Supplier 1: Digi-Key; Supplier Part Number 1: CSRF2010JT6L00TR-ND; ComponentLink1Description: Datasheet; ComponentLink1URL: https://www.seielect.com/Catalog/SEI-csrf.pdf; ComponentLink2Description: Digi-Key Listing; ComponentLink2URL: https://www.digikey.com/product-detail/en/stackpole-electronics-inc/CSRF2010JT6L00/CSRF2010JT6L00TR-ND/1742604; Tolerance: 5%; PowerRating: 1W; Price: 0.2128; Device Package: 2010 (5025 Metric)
footprint STACKPOLE CSR2010
pins: 1, 2

## CSRF2010JT8L00
designator R?
RES SMD 0.008 OHM 5% 1W 2010; Manufacturer: Stackpole Electronics Inc.; Value: 0.008; TemperatureRange: -55C ~ 125C; TemperatureCoefficient: 100ppm/C; Part Number: CSRF2010JT8L00; PartId: 21565; Supplier 1: Digi-Key; Supplier Part Number 1: CSRF2010JT8L00TR-ND; ComponentLink1Description: Datasheet; ComponentLink1URL: https://www.seielect.com/Catalog/SEI-csrf.pdf; ComponentLink2Description: Digi-Key Listing; ComponentLink2URL: https://www.digikey.com/product-detail/en/stackpole-electronics-inc/CSRF2010JT8L00/CSRF2010JT8L00TR-ND/1742611; Tolerance: 5%; PowerRating: 1W; Price: 0.2128; Device Package: 2010 (5025 Metric)
footprint STACKPOLE CSR2010
pins: 1, 2

## CSRF2512FT5L00
designator R?
RES SMD 0.005 OHM 1% 2W 2512; Manufacturer: Stackpole Electronics Inc.; Value: 0.005; TemperatureRange: -55C ~ 170C; TemperatureCoefficient: 100ppm/C; Part Number: CSRF2512FT5L00; PartId: 21450; Supplier 1: Digi-Key; Supplier Part Number 1: CSRF2512FT5L00TR-ND; ComponentLink1Description: Datasheet; ComponentLink1URL: https://www.seielect.com/Catalog/SEI-csrf.pdf; ComponentLink2Description: Digi-Key Listing; ComponentLink2URL: https://www.digikey.com/product-detail/en/stackpole-electronics-inc/CSRF2512FT5L00/CSRF2512FT5L00TR-ND/1742626; Tolerance: 1%; PowerRating: 2W; Price: 0.2893; Device Package: 2512 (6432 Metric)
footprint STACKPOLE CSR2512
pins: 1, 2

## CSRF2512FT10L0
designator R?
RES SMD 0.01 OHM 1% 2W 2512; Manufacturer: Stackpole Electronics Inc.; Value: 0.01; TemperatureRange: -55C ~ 170C; TemperatureCoefficient: 100ppm/C; Part Number: CSRF2512FT10L0; PartId: 21449; Supplier 1: Digi-Key; Supplier Part Number 1: CSRF2512FT10L0TR-ND; ComponentLink1Description: Datasheet; ComponentLink1URL: https://www.seielect.com/Catalog/SEI-csrf.pdf; ComponentLink2Description: Digi-Key Listing; ComponentLink2URL: https://www.digikey.com/product-detail/en/stackpole-electronics-inc/CSRF2512FT10L0/CSRF2512FT10L0TR-ND/1742637; Tolerance: 1%; PowerRating: 2W; Price: 0.2893; Device Package: 2512 (6432 Metric)
footprint STACKPOLE CSR2512
pins: 1, 2

## CSRF2512FT50L0
designator R?
RES SMD 0.05 OHM 1% 2W 2512; Manufacturer: Stackpole Electronics Inc.; Value: 0.05; TemperatureRange: -55C ~ 170C; TemperatureCoefficient: 50ppm/C; Part Number: CSRF2512FT50L0; PartId: 21451; Supplier 1: Digi-Key; Supplier Part Number 1: CSRF2512FT50L0TR-ND; ComponentLink1Description: Datasheet; ComponentLink1URL: https://www.seielect.com/Catalog/SEI-csrf.pdf; ComponentLink2Description: Digi-Key Listing; ComponentLink2URL: https://www.digikey.com/product-detail/en/stackpole-electronics-inc/CSRF2512FT50L0/CSRF2512FT50L0TR-ND/1788107; Tolerance: 1%; PowerRating: 2W; Price: 0.2893; Device Package: 2512 (6432 Metric)
footprint STACKPOLE CSR2512
pins: 1, 2

## CSRN2010FK10L0
designator R?, comment 0.01
RES SMD 0.01 OHM 1% 1W 2010; Part Number: CSRN2010FK10L0; Manufacturer: Stackpole Electronics Inc.; TemperatureRange: -55C ~ 155C; TemperatureCoefficient: 250ppm/C; Value: 0.01; PartId: 10101; Supplier 1: Digi-Key; Supplier Part Number 1: CSRN2010FK10L0TR-ND; ComponentLink1Description: Datasheet; ComponentLink1URL: http://www.seielect.com/catalog/SEI-CSR_CSRN.pdf; ComponentLink2Description: Digi-Key Listing; ComponentLink2URL: https://www.digikey.com/product-detail/en/stackpole-electronics-inc/CSRN2010FK10L0/CSRN2010FK10L0TR-ND/1646097; Tolerance: 1%; PowerRating: 1W; Price: 0.1665; Device Package: 2010 (5025 Metric)
footprint STACKPOLE CSRN2010
pins: 1, 2

## CSRN2010FK15L0
designator R?, comment 0.015
RES SMD 0.015 OHM 1% 1W 2010; Part Number: CSRN2010FK15L0; Manufacturer: Stackpole Electronics Inc.; TemperatureRange: -55C ~ 155C; TemperatureCoefficient: 250ppm/C; Value: 0.015; PartId: 10107; Supplier 1: Digi-Key; Supplier Part Number 1: CSRN2010FK15L0TR-ND; ComponentLink1Description: Datasheet; ComponentLink1URL: http://www.seielect.com/catalog/SEI-CSR_CSRN.pdf; ComponentLink2Description: Digi-Key Listing; ComponentLink2URL: https://www.digikey.com/product-detail/en/stackpole-electronics-inc/CSRN2010FK15L0/CSRN2010FK15L0TR-ND/1788100; Tolerance: 1%; PowerRating: 1W; Price: 0.1665; Device Package: 2010 (5025 Metric)
footprint STACKPOLE CSRN2010
pins: 1, 2

## CSRN2010FK20L0
designator R?, comment 0.02
RES SMD 0.02 OHM 1% 1W 2010; Part Number: CSRN2010FK20L0; Manufacturer: Stackpole Electronics Inc.; TemperatureRange: -55C ~ 155C; TemperatureCoefficient: 250ppm/C; Value: 0.02; PartId: 10100; Supplier 1: Digi-Key; Supplier Part Number 1: CSRN2010FK20L0TR-ND; ComponentLink1Description: Datasheet; ComponentLink1URL: http://www.seielect.com/catalog/SEI-CSR_CSRN.pdf; ComponentLink2Description: Digi-Key Listing; ComponentLink2URL: https://www.digikey.com/product-detail/en/stackpole-electronics-inc/CSRN2010FK20L0/CSRN2010FK20L0TR-ND/1646098; Tolerance: 1%; PowerRating: 1W; Price: 0.1526; Device Package: 2010 (5025 Metric)
footprint STACKPOLE CSRN2010
pins: 1, 2

## CSRN2010FK25L0
designator R?, comment 0.025
RES SMD 0.025 OHM 1% 1W 2010; Part Number: CSRN2010FK25L0; Manufacturer: Stackpole Electronics Inc.; TemperatureRange: -55C ~ 155C; TemperatureCoefficient: 250ppm/C; Value: 0.025; PartId: 10106; Supplier 1: Digi-Key; Supplier Part Number 1: CSRN2010FK25L0TR-ND; ComponentLink1Description: Datasheet; ComponentLink1URL: http://www.seielect.com/catalog/SEI-CSR_CSRN.pdf; ComponentLink2Description: Digi-Key Listing; ComponentLink2URL: https://www.digikey.com/product-detail/en/stackpole-electronics-inc/CSRN2010FK25L0/CSRN2010FK25L0TR-ND/1646099; Tolerance: 1%; PowerRating: 1W; Price: 0.1526; Device Package: 2010 (5025 Metric)
footprint STACKPOLE CSRN2010
pins: 1, 2

## CSRN2010FK30L0
designator R?, comment 0.03
RES SMD 0.03 OHM 1% 1W 2010; Part Number: CSRN2010FK30L0; Manufacturer: Stackpole Electronics Inc.; TemperatureRange: -55C ~ 155C; TemperatureCoefficient: 250ppm/C; Value: 0.03; PartId: 10105; Supplier 1: Digi-Key; Supplier Part Number 1: CSRN2010FK30L0TR-ND; ComponentLink1Description: Datasheet; ComponentLink1URL: http://www.seielect.com/catalog/SEI-CSR_CSRN.pdf; ComponentLink2Description: Digi-Key Listing; ComponentLink2URL: https://www.digikey.com/product-detail/en/stackpole-electronics-inc/CSRN2010FK30L0/CSRN2010FK30L0TR-ND/1646100; Tolerance: 1%; PowerRating: 1W; Price: 0.1526; Device Package: 2010 (5025 Metric)
footprint STACKPOLE CSRN2010
pins: 1, 2

## CSRN2010FK33L0
designator R?, comment 0.033
RES SMD 0.033 OHM 1% 1W 2010; Part Number: CSRN2010FK33L0; Manufacturer: Stackpole Electronics Inc.; TemperatureRange: -55C ~ 155C; TemperatureCoefficient: 250ppm/C; Value: 0.033; PartId: 10159; Supplier 1: Digi-Key; Supplier Part Number 1: CSRN2010FK33L0-ND; ComponentLink1Description: Datasheet; ComponentLink1URL: http://www.seielect.com/catalog/SEI-CSR_CSRN.pdf; ComponentLink2Description: Digi-Key Listing; ComponentLink2URL: https://www.digikey.com/product-detail/en/stackpole-electronics-inc/CSRN2010FK33L0/CSRN2010FK33L0-ND/1742662; Tolerance: 1%; PowerRating: 1W; Price: 0.1526; Device Package: 2010 (5025 Metric)
footprint STACKPOLE CSRN2010
pins: 1, 2

## CSRN2010FK40L0
designator R?, comment 0.04
RES SMD 0.04 OHM 1% 1W 2010; Part Number: CSRN2010FK40L0; Manufacturer: Stackpole Electronics Inc.; TemperatureRange: -55C ~ 155C; TemperatureCoefficient: 250ppm/C; Value: 0.04; PartId: 10104; Supplier 1: Digi-Key; Supplier Part Number 1: CSRN2010FK40L0TR-ND; ComponentLink1Description: Datasheet; ComponentLink1URL: http://www.seielect.com/catalog/SEI-CSR_CSRN.pdf; ComponentLink2Description: Digi-Key Listing; ComponentLink2URL: https://www.digikey.com/product-detail/en/stackpole-electronics-inc/CSRN2010FK40L0/CSRN2010FK40L0TR-ND/1788101; Tolerance: 1%; PowerRating: 1W; Price: 0.1526; Device Package: 2010 (5025 Metric)
footprint STACKPOLE CSRN2010
pins: 1, 2

## CSRN2010FK50L0
designator R?, comment 0.05
RES SMD 0.05 OHM 1% 1W 2010; Part Number: CSRN2010FK50L0; Manufacturer: Stackpole Electronics Inc.; TemperatureRange: -55C ~ 155C; TemperatureCoefficient: 250ppm/C; Value: 0.05; PartId: 10099; Supplier 1: Digi-Key; Supplier Part Number 1: CSRN2010FK50L0TR-ND; ComponentLink1Description: Datasheet; ComponentLink1URL: http://www.seielect.com/catalog/SEI-CSR_CSRN.pdf; ComponentLink2Description: Digi-Key Listing; ComponentLink2URL: https://www.digikey.com/product-detail/en/stackpole-electronics-inc/CSRN2010FK50L0/CSRN2010FK50L0TR-ND/1646101; Tolerance: 1%; PowerRating: 1W; Price: 0.1526; Device Package: 2010 (5025 Metric)
footprint STACKPOLE CSRN2010
pins: 1, 2